# EAGLE library part TLC5947 (library shack)
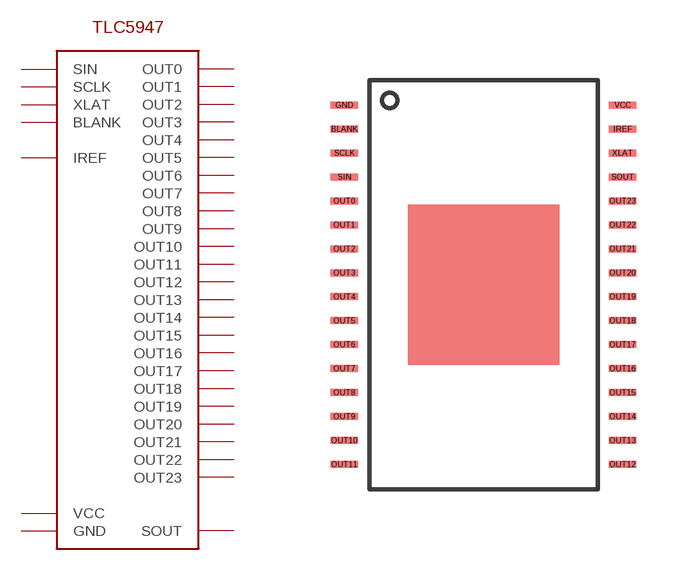
[diagram p10: symbol with the pads of TSSOP32; footprint TSSOP32]

Designator prefix -

## TLC5947  [TSSOP32]
BLANK  BLANK  in
GND  GND  pwr
IREF  IREF  in
OUT0  OUT0  in
OUT1  OUT1  in
OUT2  OUT2  in
OUT3  OUT3  in
OUT4  OUT4  in
OUT5  OUT5  in
OUT6  OUT6  in
OUT7  OUT7  in
OUT8  OUT8  in
OUT9  OUT9  in
OUT10  OUT10  in
OUT11  OUT11  in
OUT12  OUT12  in
OUT13  OUT13  in
OUT14  OUT14  in
OUT15  OUT15  in
OUT16  OUT16  in
OUT17  OUT17  in
OUT18  OUT18  in
OUT19  OUT19  in
OUT20  OUT20  in
OUT21  OUT21  in
OUT22  OUT22  in
OUT23  OUT23  in
SCLK  SCLK  in
SIN  SIN  in
SOUT  SOUT  out
VCC  VCC  pwr
XLAT  XLAT  in

## Footprint TSSOP32 (pad centres in mm)
smd 0.75 x 0.19: BLANK -3.775,4.225; GND -3.775,4.875; IREF 3.775,4.225; OUT0 -3.775,2.275; OUT1 -3.775,1.625; OUT2 -3.775,0.975; OUT3 -3.775,0.325; OUT4 -3.775,-0.325; OUT5 -3.775,-0.975; OUT6 -3.775,-1.625; OUT7 -3.775,-2.275; OUT8 -3.775,-2.925; OUT9 -3.775,-3.575; OUT10 -3.775,-4.225; OUT11 -3.775,-4.875; OUT12 3.775,-4.875; OUT13 3.775,-4.225; OUT14 3.775,-3.575; OUT15 3.775,-2.925; OUT16 3.775,-2.275; OUT17 3.775,-1.625; OUT18 3.775,-0.975; OUT19 3.775,-0.325; OUT20 3.775,0.325; OUT21 3.775,0.975; OUT22 3.775,1.625; OUT23 3.775,2.275; SCLK -3.775,3.575; SIN -3.775,2.925; SOUT 3.775,2.925; VCC 3.775,4.875; XLAT 3.775,3.575